# Altium schematic symbol library CR0402-FX-1001GLF.SchLib: 1 symbol
Pins are listed as number, name and electrical type; pins without a type are passive.

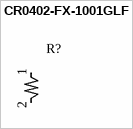
[diagram p0: symbol CR0402-FX-1001GLF]

## CR0402-FX-1001GLF
designator R?
Manufacturer_Name: Bourns Electronics; Manufacturer_Part_Number: CR0402-FX-1001GLF
pins: 1, 2